# Altium schematic symbol library WL-TMRC_5MM.SchLib: 1 symbol
Pins are listed as number, name and electrical type; pins without a type are passive.

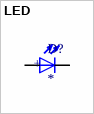
[diagram p0: symbol LED]

## LED
designator D?
WL-TMRC_5MM; MF: {'manufacturer': u'Wurth Electronics'}; MP: 151051RS11000; Package: None; Price: None; Value: *; Availability: Unavailable
footprint WL-TMRC_5MM
pins: 1 POS, 2 NEG
text: +